# Altium footprint library common.PCBLIB: 88 footprints (part 4 of 6)
Each footprint in its own frame and in the unit in brackets; x right, y up, seen from the top. Pads: shape width x height; smd on the part's side, far side on the other; paste and mask are expansions set on the pad; w line width, h text height; cw(c..) or ccw(c..) is an arc to the next point about the centre after c.
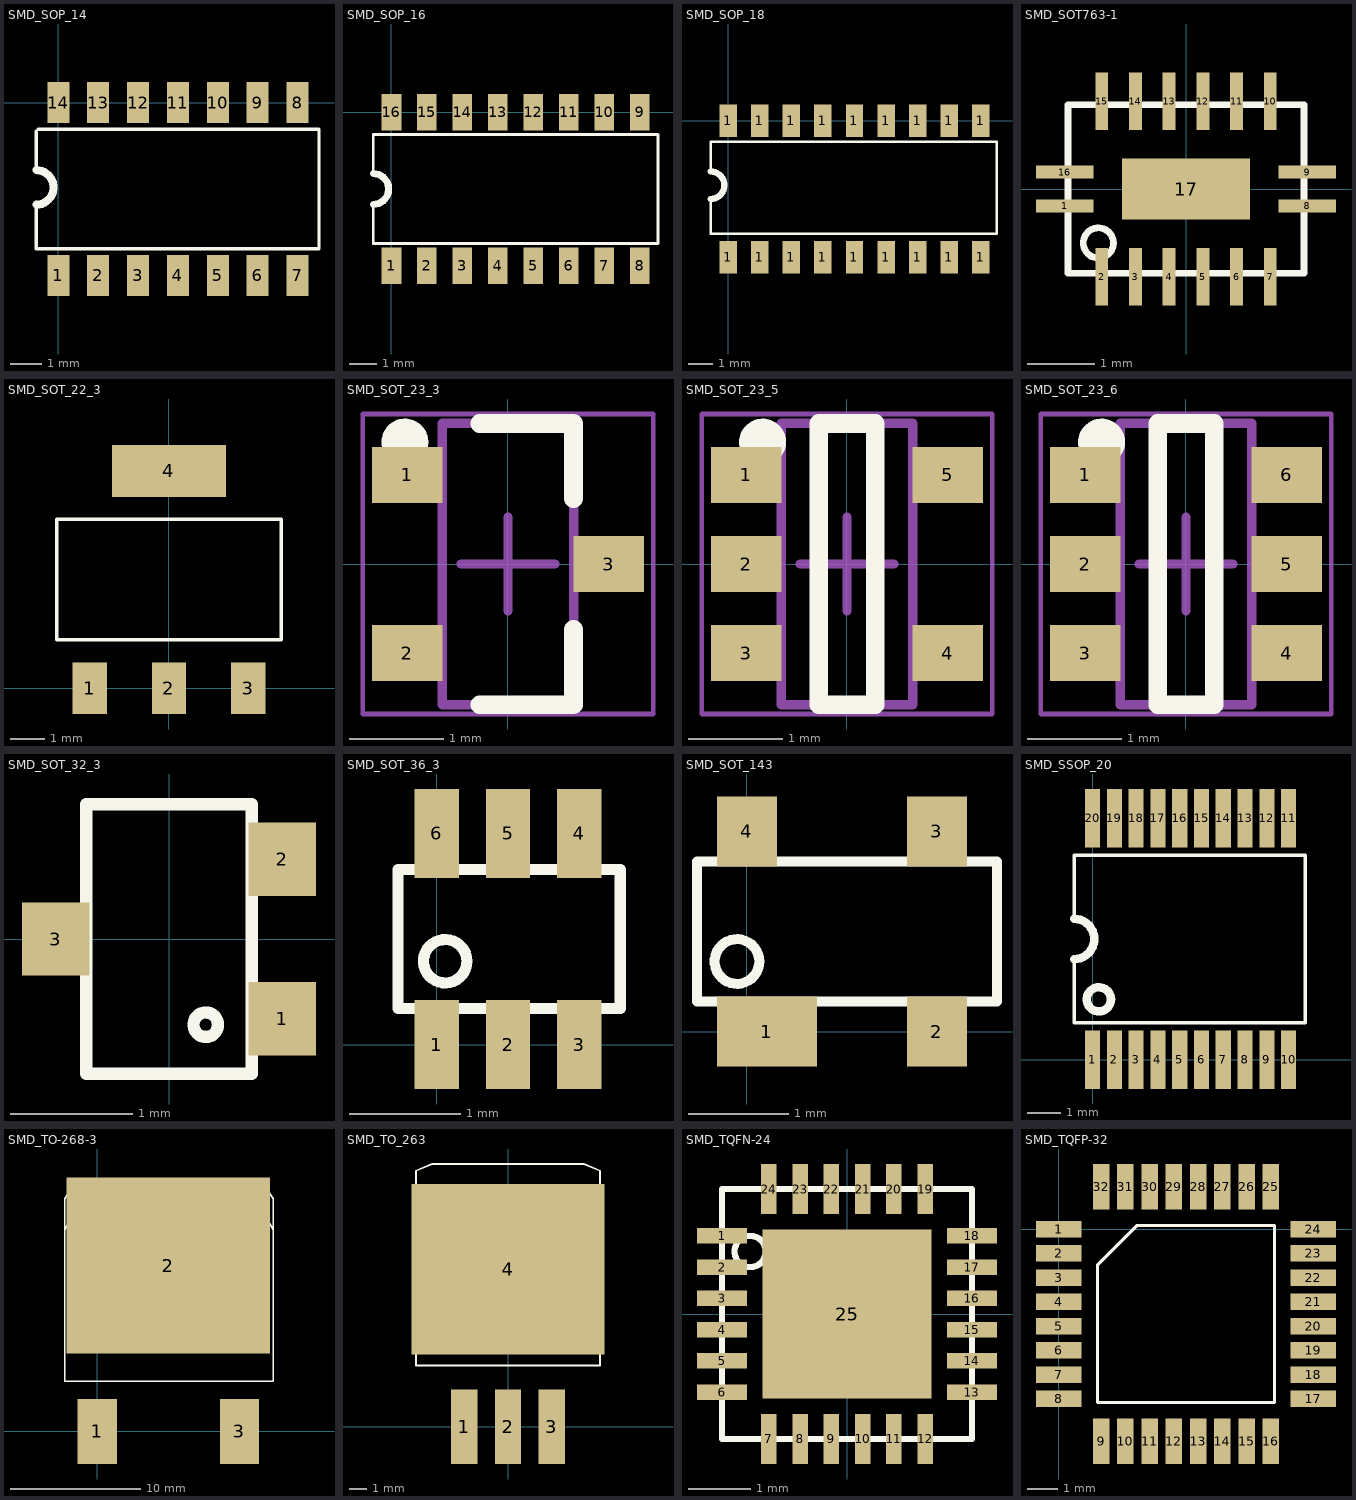
[diagram p3: the footprints below, top view; thin cyan lines are the x and y axes]

## SMD_SOP_14 [mm] "SMD_SOP_14"
pads (14):
  rect 0.7x1.3 smd: 1(0,-5.5) 2(1.27,-5.5) 3(2.54,-5.5) 4(3.81,-5.5) 5(5.08,-5.5) 6(6.35,-5.5) 7(7.62,-5.5) 8(7.62,0) 9(6.35,0) 10(5.08,0) 11(3.81,0) 12(2.54,0) 13(1.27,0) 14(0,0)
Top Overlay:
  lines w0.1: -0.7,-3.25 -0.7,-4.65 8.3,-4.65 8.3,-0.85 -0.65,-0.85 ; -0.7,-2.15 -0.7,-0.9
  lines w0.254: -0.7,-3.25 ccw(c-0.7,-2.7) -0.7,-2.15

## SMD_SOP_16 [mm] "SMD_SOP_16"
pads (16):
  rect 0.7x1.3 smd: 1(0,-5.5) 2(1.27,-5.5) 3(2.54,-5.5) 4(3.81,-5.5) 5(5.08,-5.5) 6(6.35,-5.5) 7(7.62,-5.5) 8(8.89,-5.5) 9(8.89,0) 10(7.62,0) 11(6.35,0) 12(5.08,0) 13(3.81,0) 14(2.54,0) 15(1.27,0) 16(0,0)
Top Overlay:
  lines w0.1: -0.65,-3.3 -0.65,-4.7 9.55,-4.7 9.55,-0.8 -0.65,-0.8 -0.65,-2.2
  lines w0.254: -0.65,-3.3 ccw(c-0.65,-2.75) -0.65,-2.2

## SMD_SOP_18 [mm] "SMD_SOP_18"
pads (18):
  rect 0.7x1.3 smd: 1(0,-5.5) 1(0,0) 1(1.27,-5.5) 1(1.27,0) 1(2.54,-5.5) 1(2.54,0) 1(3.81,-5.5) 1(3.81,0) 1(5.08,-5.5) 1(5.08,0) 1(6.35,-5.5) 1(6.35,0) 1(7.62,-5.5) 1(7.62,0) 1(8.89,-5.5) 1(8.89,0) 1(10.16,-5.5) 1(10.16,0)
Top Overlay:
  lines w0.1: -0.7,-3.15 -0.7,-4.55 10.8,-4.55 10.8,-0.85 -0.7,-0.85 -0.7,-2.05
  lines w0.254: -0.7,-3.15 ccw(c-0.7,-2.6) -0.7,-2.05

## SMD_SOT763-1 [mm]
pads (17):
  rect 0.85x0.19 smd: 1(-1.8,-0.25) 8(1.8,-0.25) 9(1.8,0.25) 16(-1.8,0.25)
  rect 0.19x0.85 smd: 2(-1.25,-1.3) 3(-0.75,-1.3) 4(-0.25,-1.3) 5(0.25,-1.3) 6(0.75,-1.3) 7(1.25,-1.3) 10(1.25,1.3) 11(0.75,1.3) 12(0.25,1.3) 13(-0.25,1.3) 14(-0.75,1.3) 15(-1.25,1.3)
  rect 1.9x0.9 smd: 17(0,0)
Top Overlay:
  circle w0.1: c-1.3,-0.8 r0.224
  lines w0.1: -1.75,-1.25 1.75,-1.25 1.75,1.25 -1.75,1.25 -1.75,-1.25

## SMD_SOT_22_3 [mm] "SMD_SOT_22_3"
height 1.6
pads (4):
  rect 1x1.5 smd: 1(-2.3,0) 2(0,0) 3(2.3,0)
  rect 3.3x1.5 smd: 4(0,6.3)
Top Overlay:
  lines w0.1: -3.25,1.4 -3.25,4.9 3.25,4.9 3.25,1.4 -3.25,1.4

## SMD_SOT_23_3 [mm] "SOT23, 3-Leads, Body 2.90x2.35mm, Pitch 0.95mm, IPC High Density"
height 1.1
pads (3):
  rect 0.75x0.6 smd: 1(-1.075,0.95) 2(-1.075,-0.95) 3(1.075,0)
Top Overlay:
  circle w0.25: c-1.1,1.3 r0.125
  lines w0.2: -0.3,-1.5 0.7,-1.5 0.7,-0.7 ; -0.3,1.5 0.7,1.5 0.7,0.7
Mechanical 13:
  lines w0.1: -0.7,-1.5 0.7,-1.5 0.7,1.5 -0.7,1.5 -0.7,-1.5
Mechanical 15:
  lines w0.05: -1.55,-1.6 1.55,-1.6 1.55,1.6 -1.55,1.6 -1.55,-1.6
  lines w0.1: -0.5,0 0.5,0 ; 0,-0.5 0,0.5
3D body: height 1.1, standoff 0.05, extent -0.7,-1.5 0.7,1.5

## SMD_SOT_23_5 [mm] "SMD_SOT_23_5"
height 1.45
pads (5):
  rect 0.75x0.6 smd: 1(-1.075,0.95) 2(-1.075,0) 3(-1.075,-0.95) 4(1.075,-0.95) 5(1.075,0.95)
Top Overlay:
  circle w0.25: c-0.9,1.3 r0.125
  lines w0.2: -0.3,-1.5 -0.3,1.5 0.3,1.5 0.3,-1.5 -0.3,-1.5
Mechanical 13:
  lines w0.1: -0.7,-1.5 0.7,-1.5 0.7,1.5 -0.7,1.5 -0.7,-1.5
Mechanical 15:
  lines w0.05: -1.55,-1.6 1.55,-1.6 1.55,1.6 -1.55,1.6 -1.55,-1.6
  lines w0.1: -0.5,0 0.5,0 ; 0,-0.5 0,0.5
3D body: height 1.1, standoff 0.05, extent -0.7,-1.5 0.7,1.5

## SMD_SOT_23_6 [mm]
height 1.1
pads (6):
  rect 0.75x0.6 smd: 1(-1.075,0.95) 2(-1.075,0) 3(-1.075,-0.95) 4(1.075,-0.95) 5(1.075,0) 6(1.075,0.95)
Top Overlay:
  circle w0.25: c-0.9,1.3 r0.125
  lines w0.2: -0.3,-1.5 -0.3,1.5 0.3,1.5 0.3,-1.5 -0.3,-1.5
Mechanical 13:
  lines w0.1: -0.7,-1.5 0.7,-1.5 0.7,1.5 -0.7,1.5 -0.7,-1.5
Mechanical 15:
  lines w0.05: -1.55,-1.6 1.55,-1.6 1.55,1.6 -1.55,1.6 -1.55,-1.6
  lines w0.1: -0.5,0 0.5,0 ; 0,-0.5 0,0.5
3D body: height 1.1, standoff 0.05, extent -0.7,-1.5 0.7,1.5

## SMD_SOT_32_3 [mm] "SOT_32_3 (SC-70)"
height 1.1
pads (3):
  rect 0.55x0.6 smd: 1(0.925,-0.65) 2(0.925,0.65) 3(-0.925,0)
Top Overlay:
  circle w0.1: c0.3,-0.7 r0.1
  lines w0.1: -0.675,-1.1 0.675,-1.1 0.675,1.1 -0.675,1.1 -0.675,-1.1

## SMD_SOT_36_3 [mm] "SMD_SOT_36_3"
pads (6):
  rect 0.4x0.8 smd: 1(0,0) 2(0.64,0) 3(1.28,0) 4(1.28,1.9) 5(0.64,1.9) 6(0,1.9)
Top Overlay:
  circle w0.1: c0.075,0.75 r0.195
  lines w0.1: -0.35,0.325 -0.35,1.575 1.65,1.575 1.65,0.325 -0.35,0.325

## SMD_SOT_143 [mm] "SMD_SOT_143"
height 1.1
pads (4):
  rect 1x0.7 smd: 1(0.2,0)
  rect 0.6x0.7 smd: 2(1.9,0) 3(1.9,2) 4(0,2)
Top Overlay:
  circle w0.1: c-0.1,0.7 r0.224
  lines w0.1: -0.5,0.3 2.5,0.3 2.5,1.7 -0.5,1.7 -0.5,0.3

## SMD_SSOP_20 [mm] "SMD_SSOP_20"
height 2
pads (20):
  rect 0.45x1.75 smd: 1(0,0) 2(0.65,0) 3(1.3,0) 4(1.95,0) 5(2.6,0) 6(3.25,0) 7(3.9,0) 8(4.55,0) 9(5.2,0) 10(5.85,0) 11(5.85,7.2) 12(5.2,7.2) 13(4.55,7.2) 14(3.9,7.2) 15(3.25,7.2) 16(2.6,7.2) 17(1.95,7.2) 18(1.3,7.2) 19(0.65,7.2) 20(0,7.2)
Top Overlay:
  circle w0.254: c0.189,1.8 r0.361
  lines w0.1: -0.55,3 -0.55,1.1 6.35,1.1 6.35,6.1 -0.55,6.1 -0.55,4.2
  lines w0.254: -0.55,3 ccw(c-0.55,3.6) -0.55,4.2

## SMD_TO-268-3 [mm] "SMD_TO-268-3"
height 5
pads (3):
  rect 3x5 smd: 1(0,0) 3(10.9,0)
  rect 15.59x13.49 smd: 2(5.45,12.7)
Top Overlay:
  lines w0.1: -2.5,15.45 -1.1,17.85 12.1,17.85 13.5,15.45 ; -2.5,3.85 -2.5,17.85 -1.7,19.05 12.7,19.05 13.5,17.85 13.5,3.85 -2.5,3.85

## SMD_TO_263 [mm] "SMD_TO_263"
pads (4):
  rect 1.52x4.32 smd: 1(-2.54,0) 2(0,0) 3(2.54,0)
  rect 11.18x9.91 smd: 4(0,9.144)
Top Overlay:
  lines w0.1: -5.335,13.2 -5.335,3.55 5.335,3.55 5.335,13.2 ; -5.335,13.2 5.335,13.2 ; -5.335,13.2 -5.335,14.85 -4.4,15.25 4.4,15.25 5.335,14.85 5.335,13.2

## SMD_TQFN-24 [mm]
pads (25):
  rect 0.8x0.25 smd mask+0.05: 1(-2,1.25) 2(-2,0.75) 3(-2,0.25) 4(-2,-0.25) 5(-2,-0.75) 6(-2,-1.25) 13(2,-1.25) 14(2,-0.75) 15(2,-0.25) 16(2,0.25) 17(2,0.75) 18(2,1.25)
  rect 0.25x0.8 smd mask+0.05: 7(-1.25,-2) 8(-0.75,-2) 9(-0.25,-2) 10(0.25,-2) 11(0.75,-2) 12(1.25,-2) 19(1.25,2) 20(0.75,2) 21(0.25,2) 22(-0.25,2) 23(-0.75,2) 24(-1.25,2)
  rect 2.7x2.7 smd: 25(0,0)
Top Overlay:
  circle w0.1: c-1.55,1 r0.25
  lines w0.1: -2,-2 -0.85,-2 2,-2 2,2 -0.1,2 -2,2 -2,-2

## SMD_TQFP-32 [mm]
pads (32):
  rect 1.5x0.55 smd: 1(0,0) 2(0,-0.8) 3(0,-1.6) 4(0,-2.4) 5(0,-3.2) 6(0,-4) 7(0,-4.8) 8(0,-5.6) 17(8.4,-5.6) 18(8.4,-4.8) 19(8.4,-4) 20(8.4,-3.2) 21(8.4,-2.4) 22(8.4,-1.6) 23(8.4,-0.8) 24(8.4,0)
  rect 0.55x1.5 smd: 9(1.4,-7) 10(2.2,-7) 11(3,-7) 12(3.8,-7) 13(4.6,-7) 14(5.4,-7) 15(6.2,-7) 16(7,-7) 25(7,1.4) 26(6.2,1.4) 27(5.4,1.4) 28(4.6,1.4) 29(3.8,1.4) 30(3,1.4) 31(2.2,1.4) 32(1.4,1.4)
Top Overlay:
  lines w0.1: 1.285,-5.715 1.285,-1.17 2.57,0.115 7.115,0.115 7.115,-5.715 1.285,-5.715